# Altium schematic symbol library Symbols.SchLib: 1 symbol
Pins are listed as number, name and electrical type; pins without a type are passive.

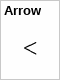
[diagram p0: symbol Arrow]

## Arrow
designator S1  (value not drawn)